# Altium footprint library LTC6811IG-2_PBF.PcbLib: 2 footprints
Each footprint in its own frame and in the unit in brackets; x right, y up, seen from the top. Pads: shape width x height; smd on the part's side, far side on the other; paste and mask are expansions set on the pad; w line width, h text height; cw(c..) or ccw(c..) is an arc to the next point about the centre after c.
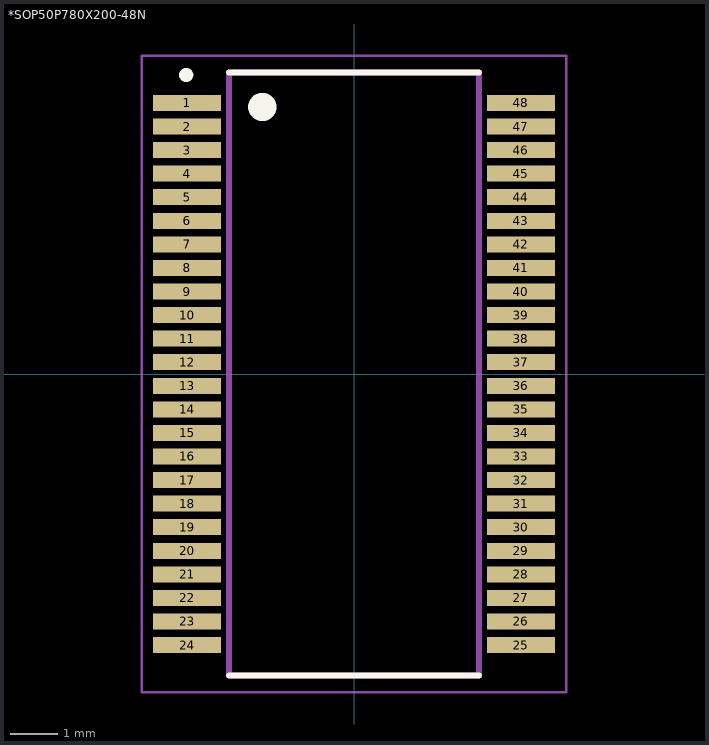
[diagram p0: the footprints below, top view; thin cyan lines are the x and y axes]

## *SOP50P780X200-48N [mm]
pads (48):
  rect 1.44x0.34 smd: 1(-3.54,5.75) 2(-3.54,5.25) 3(-3.54,4.75) 4(-3.54,4.25) 5(-3.54,3.75) 6(-3.54,3.25) 7(-3.54,2.75) 8(-3.54,2.25) 9(-3.54,1.75) 10(-3.54,1.25) 11(-3.54,0.75) 12(-3.54,0.25) 13(-3.54,-0.25) 14(-3.54,-0.75) 15(-3.54,-1.25) 16(-3.54,-1.75) 17(-3.54,-2.25) 18(-3.54,-2.75) 19(-3.54,-3.25) 20(-3.54,-3.75) 21(-3.54,-4.25) 22(-3.54,-4.75) 23(-3.54,-5.25) 24(-3.54,-5.75) 25(3.54,-5.75) 26(3.54,-5.25) 27(3.54,-4.75) 28(3.54,-4.25) 29(3.54,-3.75) 30(3.54,-3.25) 31(3.54,-2.75) 32(3.54,-2.25) 33(3.54,-1.75) 34(3.54,-1.25) 35(3.54,-0.75) 36(3.54,-0.25) 37(3.54,0.25) 38(3.54,0.75) 39(3.54,1.25) 40(3.54,1.75) 41(3.54,2.25) 42(3.54,2.75) 43(3.54,3.25) 44(3.54,3.75) 45(3.54,4.25) 46(3.54,4.75) 47(3.54,5.25) 48(3.54,5.75)
Top Overlay:
  circle w0.2: c-3.56,6.345 r0.05
  circle w0.4: c-1.945,5.665 r0.1
  lines w0.127: -2.65,-6.4 2.65,-6.4 ; -2.65,6.4 2.65,6.4
Mechanical 4:
  lines w0.127: -2.65,-6.4 -2.65,6.4 ; -2.65,-6.4 2.65,-6.4 ; -2.65,-6.4 -2.65,6.4 ; -2.65,-6.4 2.65,-6.4 ; -2.65,6.4 2.65,6.4 ; -2.65,6.4 2.65,6.4 ; 2.65,-6.4 2.65,6.4 ; 2.65,-6.4 2.65,6.4
Mechanical 16:
  lines w0.05: -4.5,-6.75 -4.5,6.75 4.5,6.75 4.5,-6.75 -4.5,-6.75

## PCBComponent_1 [mm]